# Altium footprint library Rising Clamp System WR-TBL_7.62 mm.PcbLib: 34 footprints (part 1 of 3)
Each footprint in its own frame and in the unit in brackets; x right, y up, seen from the top. Pads: shape width x height; smd on the part's side, far side on the other; paste and mask are expansions set on the pad; w line width, h text height; cw(c..) or ccw(c..) is an arc to the next point about the centre after c.
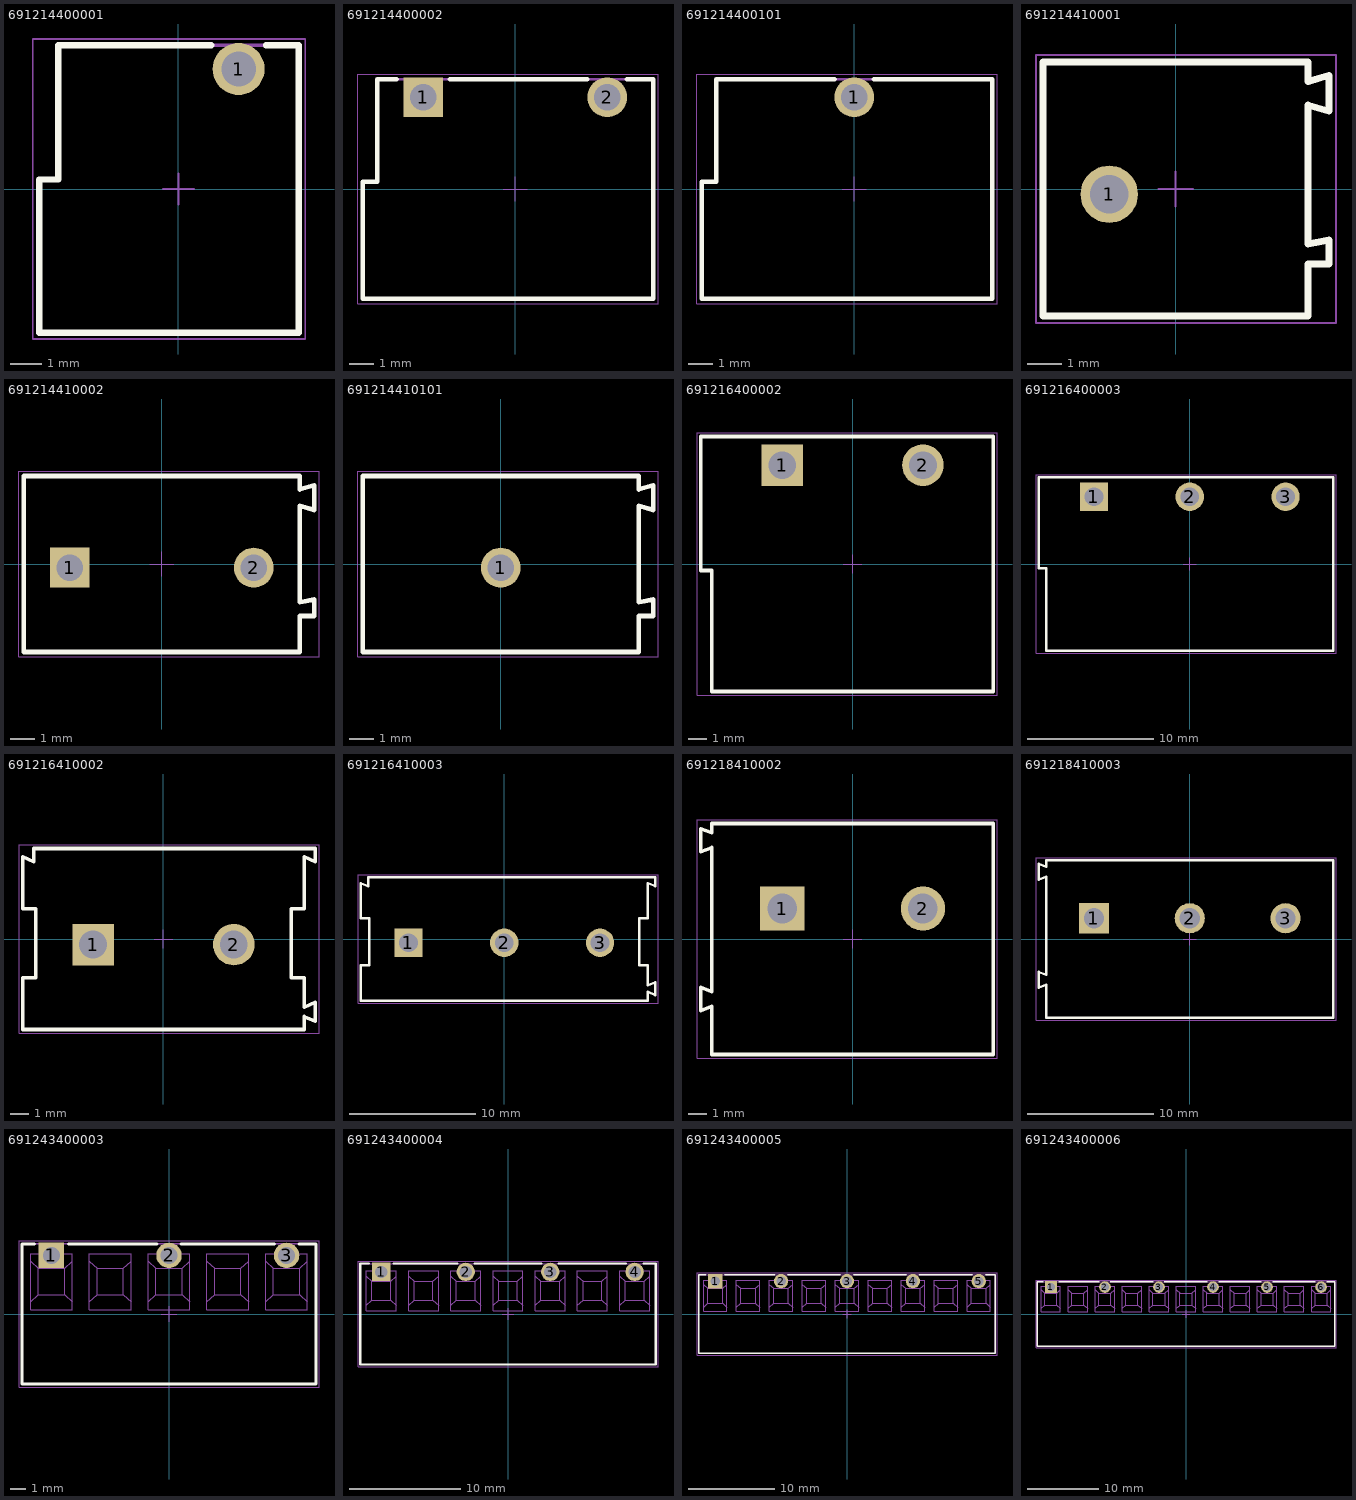
[diagram p0: the footprints below, top view; thin cyan lines are the x and y axes]

## 691214400001 [mm] "7.62 mm Vertical Cable Entry with Rising Cage Clamp, 1 pin"
height 7.3
pads (1):
  round 1.65 hole 1.1: 1(1.905,3.8)
Top Overlay:
  lines w0.2: 1.04,4.55 -3.81,4.55 -3.81,0.3 -4.41,0.3 -4.41,-4.55 3.81,-4.55 3.81,4.55 2.77,4.55
M13 Assembly Top:
  lines w0.1: -4.41,-4.55 -4.41,0.3 -3.81,0.3 -3.81,4.55 3.81,4.55 3.81,-4.55 -4.41,-4.55
M15 Courtyard Top:
  lines w0.05: -0.5,0 0.5,0 ; 0,-0.5 0,0.5 ; -4.61,-4.75 -4.61,4.75 4.01,4.75 4.01,-4.75 -4.61,-4.75
3D body "691214400001.stp": height 7.4, standoff -3.4, extent -4.41,-4.55 3.81,4.55

## 691214400002 [mm] "7.62 mm Vertical Cable Entry with Rising Cage Clamp, 2 pins"
height 7.3
pads (2):
  rect 1.65x1.65 hole 1.1: 1(-3.81,3.8)
  round 1.65 hole 1.1: 2(3.81,3.8)
Top Overlay:
  lines w0.2: -4.915,4.55 -5.715,4.55 -5.715,0.3 -6.315,0.3 -6.315,-4.55 5.715,-4.55 5.715,4.55 4.635,4.55 ; -2.705,4.55 2.985,4.55
M13 Assembly Top:
  lines w0.1: -6.315,-4.55 -6.315,0.3 -5.715,0.3 -5.715,4.55 5.715,4.55 5.715,-4.55 -6.315,-4.55
M15 Courtyard Top:
  lines w0.05: -0.5,0 0.5,0 ; 0,-0.5 0,0.5 ; -6.515,-4.75 -6.515,4.75 5.915,4.75 5.915,-4.75 -6.515,-4.75
3D body "691214400002.stp": height 7.4, standoff -3.4, extent -6.315,-4.55 5.715,4.55

## 691214400101 [mm] "7.62 mm Vertical Cable Entry with Rising Cage Clamp, 1 pin"
height 7.3
pads (1):
  round 1.65 hole 1.1: 1(0,3.8)
Top Overlay:
  lines w0.2: -0.815,4.55 -5.715,4.55 -5.715,0.3 -6.315,0.3 -6.315,-4.55 5.715,-4.55 5.715,4.55 0.815,4.55
M13 Assembly Top:
  lines w0.1: -6.315,-4.55 5.715,-4.55 5.715,4.55 -5.715,4.55 -5.715,0.3 -6.315,0.3 -6.315,-4.55
M15 Courtyard Top:
  lines w0.05: -0.5,0 0.5,0 ; 0,-0.5 0,0.5 ; -6.515,-4.75 5.915,-4.75 5.915,4.75 -6.515,4.75 -6.515,-4.75
3D body "691214400101.stp": height 7.4, standoff -3.4, extent -6.315,-4.55 5.715,4.55

## 691214410001 [mm] "7.62 mm Horizontal Entry w. Rising Cage Clamp, 01p"
height 9.1
pads (1):
  round 1.65 hole 1.1: 1(-1.905,-0.15)
Top Overlay:
  lines w0.2: -3.81,-3.65 -3.81,3.65 3.81,3.65 3.81,3.09 4.41,3.265 4.41,2.235 3.81,2.41 3.81,-1.58 4.41,-1.47 4.41,-2.15 3.81,-2.15 3.81,-3.65 -3.81,-3.65
M13 Assembly Top:
  lines w0.1: -3.81,-3.65 3.81,-3.65 3.81,-2.15 4.41,-2.15 4.41,-1.47 3.81,-1.58 3.81,2.41 4.41,2.235 4.41,3.265 3.81,3.09 3.81,3.65 -3.81,3.65 -3.81,-3.65
M15 Courtyard Top:
  lines w0.05: -0.5,0 0.5,0 ; 0,-0.5 0,0.5 ; -4.01,-3.85 -4.01,3.85 4.61,3.85 4.61,-3.85 -4.01,-3.85
3D body "691214410001.stp": height 9.2, standoff -3.4, extent -3.81,-3.65 4.41,3.65

## 691214410002 [mm] "7.62 mm Horizontal Entry w. Rising Cage Clamp, 02p"
height 9.1
pads (2):
  rect 1.65x1.65 hole 1.1: 1(-3.81,-0.15)
  round 1.65 hole 1.1: 2(3.81,-0.15)
Top Overlay:
  lines w0.2: -5.715,-3.65 5.715,-3.65 5.715,-2.15 6.315,-2.15 6.315,-1.47 5.715,-1.58 5.715,2.41 6.315,2.235 6.315,3.265 5.715,3.09 5.715,3.65 -5.715,3.65 -5.715,-3.65
M13 Assembly Top:
  lines w0.1: -5.715,-3.65 -5.715,3.65 5.715,3.65 5.715,3.09 6.315,3.265 6.315,2.235 5.715,2.41 5.715,-1.58 6.315,-1.47 6.315,-2.15 5.715,-2.15 5.715,-3.65 -5.715,-3.65
M15 Courtyard Top:
  lines w0.05: -0.5,0 0.5,0 ; 0,-0.5 0,0.5 ; -5.915,-3.85 6.515,-3.85 6.515,3.85 -5.915,3.85 -5.915,-3.85
3D body "691214410002.stp": height 9.2, standoff -3.4, extent -5.715,-3.65 6.315,3.65

## 691214410101 [mm] "7.62 mm Horizontal Entry w. Rising Cage Clamp, 01p"
height 9.1
pads (1):
  round 1.65 hole 1.1: 1(0,-0.15)
Top Overlay:
  lines w0.2: -5.715,-3.65 5.715,-3.65 5.715,-2.15 6.315,-2.15 6.315,-1.47 5.715,-1.58 5.715,2.41 6.315,2.235 6.315,3.265 5.715,3.09 5.715,3.65 -5.715,3.65 -5.715,-3.65
M13 Assembly Top:
  lines w0.1: -5.715,-3.65 -5.715,3.65 5.715,3.65 5.715,3.09 6.315,3.265 6.315,2.235 5.715,2.41 5.715,-1.58 6.315,-1.47 6.315,-2.15 5.715,-2.15 5.715,-3.65 -5.715,-3.65
M15 Courtyard Top:
  lines w0.05: -0.5,0 0.5,0 ; 0,-0.5 0,0.5 ; -5.915,-3.85 6.515,-3.85 6.515,3.85 -5.915,3.85 -5.915,-3.85
3D body "691214410101.stp": height 9.2, standoff -3.4, extent -5.715,-3.65 6.315,3.65

## 691216400002 [mm] "Vertical Cable Entry with Rising Cage Clamp, pitch 7.62mm, 02p"
height 9.8
pads (2):
  rect 2.25x2.25 hole 1.5: 1(-3.81,5.35)
  round 2.25 hole 1.5: 2(3.81,5.35)
Top Overlay:
  lines w0.2: -8.22,-0.35 -8.22,6.9 7.62,6.9 7.62,-6.9 -7.62,-6.9 -7.62,-0.35 -8.22,-0.35
M13 Assembly Top:
  lines w0.1: -8.22,-0.35 -7.62,-0.35 -7.62,-6.9 7.62,-6.9 7.62,6.9 -8.22,6.9 -8.22,-0.35
M15 Courtyard Top:
  lines w0.05: -0.5,0 0.5,0 ; 0,-0.5 0,0.5 ; -8.42,-7.1 7.82,-7.1 7.82,7.1 -8.42,7.1 -8.42,-7.1
3D body "691216400002.stp": height 9.9, standoff -3.4, extent -8.22,-6.9 7.62,6.9

## 691216400003 [mm] "Vertical Cable Entry with Rising Cage Clamp, pitch 7.62mm, 03p"
height 9.8
pads (3):
  rect 2.25x2.25 hole 1.5: 1(-7.62,5.35)
  round 2.25 hole 1.5: 2(0,5.35) 3(7.62,5.35)
Top Overlay:
  lines w0.2: -12.03,-0.35 -11.43,-0.35 -11.43,-6.9 11.43,-6.9 11.43,6.9 -12.03,6.9 -12.03,-0.35
M13 Assembly Top:
  lines w0.1: -12.03,-0.35 -12.03,6.9 11.43,6.9 11.43,-6.9 -11.43,-6.9 -11.43,-0.35 -12.03,-0.35
M15 Courtyard Top:
  lines w0.05: -0.5,0 0.5,0 ; 0,-0.5 0,0.5 ; -12.23,-7.1 -12.23,7.1 11.63,7.1 11.63,-7.1 -12.23,-7.1
3D body "691216400003.stp": height 9.9, standoff -3.4, extent -12.03,-6.9 11.43,6.9

## 691216410002 [mm] "Horizontal Cable Entry with Rising Cage Clamp, pitch 7.62mm, 02p"
height 13.8
pads (2):
  rect 2.25x2.25 hole 1.5: 1(-3.81,-0.3)
  round 2.25 hole 1.5: 2(3.81,-0.3)
Top Overlay:
  lines w0.2: -7.62,4.45 -7.62,1.64 -6.92,1.64 -6.92,-2.09 -7.62,-2.09 -7.62,-4.9 7.62,-4.9 7.62,-4.2 ; -7.619,4.452 -7.02,4.19 -7.02,4.9 8.22,4.9 8.22,4.19 7.62,4.451 ; 7.62,-3.691 7.62,-2.09 6.92,-2.09 6.92,1.64 7.62,1.64 7.62,4.45 ; 7.621,-4.198 8.22,-4.46 8.22,-3.43 7.621,-3.692
M13 Assembly Top:
  lines w0.1: -7.62,4.45 -7.62,1.64 -6.92,1.64 -6.92,-2.09 -7.62,-2.09 -7.62,-4.9 7.62,-4.9 7.62,-4.2 ; -7.619,4.452 -7.02,4.19 -7.02,4.9 8.22,4.9 8.22,4.19 7.62,4.451 ; 7.62,-3.691 7.62,-2.09 6.92,-2.09 6.92,1.64 7.62,1.64 7.62,4.45 ; 7.621,-4.198 8.22,-4.46 8.22,-3.43 7.621,-3.692
M15 Courtyard Top:
  lines w0.05: -0.5,0 0.5,0 ; 0,-0.5 0,0.5 ; -7.82,-5.1 8.42,-5.1 8.42,5.1 -7.82,5.1 -7.82,-5.1
3D body "691216410002.stp": height 13.9, standoff -3.4, extent -7.62,-4.9 8.22,4.9

## 691216410003 [mm] "Horizontal Cable Entry with Rising Cage Clamp, pitch 7.62mm, 03p"
height 13.8
pads (3):
  rect 2.25x2.25 hole 1.5: 1(-7.62,-0.3)
  round 2.25 hole 1.5: 2(0,-0.3) 3(7.62,-0.3)
Top Overlay:
  lines w0.2: -11.43,4.45 -11.43,1.64 -10.73,1.64 -10.73,-2.09 -11.43,-2.09 -11.43,-4.9 11.43,-4.9 11.43,-4.2 ; -11.429,4.452 -10.83,4.19 -10.83,4.9 12.03,4.9 12.03,4.19 11.43,4.451 ; 11.43,-3.691 11.43,-2.09 10.73,-2.09 10.73,1.64 11.43,1.64 11.43,4.45 ; 11.431,-4.198 12.03,-4.46 12.03,-3.43 11.431,-3.692
M13 Assembly Top:
  lines w0.1: -11.43,4.45 -11.43,1.64 -10.73,1.64 -10.73,-2.09 -11.43,-2.09 -11.43,-4.9 11.43,-4.9 11.43,-4.2 ; -11.429,4.452 -10.83,4.19 -10.83,4.9 12.03,4.9 12.03,4.19 11.43,4.451 ; 11.43,-3.691 11.43,-2.09 10.73,-2.09 10.73,1.64 11.43,1.64 11.43,4.45 ; 11.431,-4.198 12.03,-4.46 12.03,-3.43 11.431,-3.692
M15 Courtyard Top:
  lines w0.05: -0.5,0 0.5,0 ; 0,-0.5 0,0.5 ; -11.63,-5.1 -11.63,5.1 12.23,5.1 12.23,-5.1 -11.63,-5.1
3D body "691216410003.stp": height 13.9, standoff -3.4, extent -11.43,-4.9 12.03,4.9

## 691218410002 [mm] "Horizontal Entry Modular with Rising Cage Clamp, pitch 7.62mm, 2pin"
height 21.5
pads (2):
  rect 2.4x2.4 hole 1.6: 1(-3.81,1.65)
  round 2.4 hole 1.6: 2(3.81,1.65)
Top Overlay:
  lines w0.2: -8.22,-3.875 -7.62,-3.65 -7.62,-6.25 7.62,-6.25 7.62,6.25 -7.62,6.25 -7.62,5.75 -8.22,5.975 -8.22,4.725 -7.62,4.95 -7.62,-2.85 -8.22,-2.625 -8.22,-3.875
M13 Assembly Top:
  lines w0.1: -8.22,-3.875 -8.22,-2.625 -7.62,-2.85 -7.62,4.95 -8.22,4.725 -8.22,5.975 -7.62,5.75 -7.62,6.25 7.62,6.25 7.62,-6.25 -7.62,-6.25 -7.62,-3.65 -8.22,-3.875
M15 Courtyard Top:
  lines w0.05: -0.5,0 0.5,0 ; 0,-0.5 0,0.5 ; -8.42,-6.45 7.82,-6.45 7.82,6.45 -8.42,6.45 -8.42,-6.45
3D body "691218410002.stp": height 21.53, standoff -4.17, extent -8.21,-6.25 7.63,6.25

## 691218410003 [mm] "Horizontal Entry Modular with Rising Cage Clamp, pitch 7.62mm, 3pin"
height 21.5
pads (3):
  rect 2.4x2.4 hole 1.6: 1(-7.62,1.65)
  round 2.4 hole 1.6: 2(0,1.65) 3(7.62,1.65)
Top Overlay:
  lines w0.2: -12.03,-3.875 -12.03,-2.625 -11.43,-2.85 -11.43,4.95 -12.03,4.725 -12.03,5.975 -11.43,5.75 -11.43,6.25 11.43,6.25 11.43,-6.25 -11.43,-6.25 -11.43,-3.65 -12.03,-3.875
M13 Assembly Top:
  lines w0.1: -12.03,-3.875 -11.43,-3.65 -11.43,-6.25 11.43,-6.25 11.43,6.25 -11.43,6.25 -11.43,5.75 -12.03,5.975 -12.03,4.725 -11.43,4.95 -11.43,-2.85 -12.03,-2.625 -12.03,-3.875
M15 Courtyard Top:
  lines w0.05: -0.5,0 0.5,0 ; 0,-0.5 0,0.5 ; -12.23,-6.45 -12.23,6.45 11.63,6.45 11.63,-6.45 -12.23,-6.45
3D body "691218410003.stp": height 21.53, standoff -4.17, extent -12.03,-6.25 11.43,6.25

## 691243400003 [mm] "Serie 2434 - 7.62 mm _ 3 pins"
height 7.3
pads (3):
  rect 1.65x1.65 hole 1.1: 1(-7.62,3.8)
  round 1.65 hole 1.1: 2(0,3.8) 3(7.62,3.8)
Top Overlay:
  lines w0.2: -8.725,4.55 -9.525,4.55 -9.525,-4.55 9.525,-4.55 9.525,4.55 8.415,4.55 ; -6.515,4.55 -0.775,4.55 ; 0.775,4.55 6.825,4.55
M13 Assembly Top:
  lines w0.05: -8.97,0.79 -8.465,1.245 ; -8.97,3.41 -8.465,2.955 ; -6.775,1.245 -6.27,0.79 ; -6.775,2.955 -6.27,3.41 ; -5.16,0.79 -4.655,1.245 ; -5.16,3.41 -4.655,2.955 ; -2.965,1.245 -2.46,0.79 ; -2.965,2.955 -2.46,3.41 ; -1.35,0.79 -0.845,1.245 ; -1.35,3.41 -0.845,2.955 ; 0.845,1.245 1.35,0.79 ; 0.845,2.955 1.35,3.41 ; 2.46,0.79 2.965,1.245 ; 2.46,3.41 2.965,2.955 ; 4.655,1.245 5.16,0.79 ; 4.655,2.955 5.16,3.41 ; 6.27,0.79 6.775,1.245 ; 6.27,3.41 6.775,2.955 ; 8.465,1.245 8.97,0.79 ; 8.465,2.955 8.97,3.41 ; -8.97,0.29 -8.97,3.91 -6.27,3.91 -6.27,0.29 -8.97,0.29 ; -8.47,1.25 -8.47,2.95 -6.77,2.95 -6.77,1.25 -8.47,1.25 ; -5.16,0.29 -2.46,0.29 -2.46,3.91 -5.16,3.91 -5.16,0.29 ; -4.66,1.25 -2.96,1.25 -2.96,2.95 -4.66,2.95 -4.66,1.25 ; -1.35,0.29 1.35,0.29 1.35,3.91 -1.35,3.91 -1.35,0.29 ; -0.85,1.25 0.85,1.25 0.85,2.95 -0.85,2.95 -0.85,1.25 ; 2.46,0.29 5.16,0.29 5.16,3.91 2.46,3.91 2.46,0.29 ; 2.96,1.25 4.66,1.25 4.66,2.95 2.96,2.95 2.96,1.25 ; 6.27,0.29 8.97,0.29 8.97,3.91 6.27,3.91 6.27,0.29 ; 6.77,1.25 8.47,1.25 8.47,2.95 6.77,2.95 6.77,1.25
  lines w0.1: -9.525,-4.55 9.525,-4.55 9.525,4.55 -9.525,4.55 -9.525,-4.55
M15 Courtyard Top:
  lines w0.05: -0.5,0 0.5,0 ; 0,-0.5 0,0.5 ; -9.725,-4.75 -9.725,4.75 9.725,4.75 9.725,-4.75 -9.725,-4.75
3D body "691243400003.stp": height 7.35, standoff -3.45, extent -9.525,-4.55 9.525,4.55

## 691243400004 [mm] "Serie 2434 - 7.62 mm _ 4 pins"
height 7.3
pads (4):
  rect 1.65x1.65 hole 1.1: 1(-11.43,3.8)
  round 1.65 hole 1.1: 2(-3.81,3.8) 3(3.81,3.8) 4(11.43,3.8)
Top Overlay:
  lines w0.2: -12.535,4.55 -13.335,4.55 -13.335,-4.55 13.335,-4.55 13.335,4.55 12.225,4.55 ; -10.325,4.55 -4.585,4.55 ; -3.035,4.55 3.015,4.55 ; 4.585,4.55 10.635,4.55
M13 Assembly Top:
  lines w0.05: -12.78,0.79 -12.275,1.245 ; -12.78,3.41 -12.275,2.955 ; -10.585,1.245 -10.08,0.79 ; -10.585,2.955 -10.08,3.41 ; -8.97,0.79 -8.465,1.245 ; -8.97,3.41 -8.465,2.955 ; -6.775,1.245 -6.27,0.79 ; -6.775,2.955 -6.27,3.41 ; -5.16,0.79 -4.655,1.245 ; -5.16,3.41 -4.655,2.955 ; -2.965,1.245 -2.46,0.79 ; -2.965,2.955 -2.46,3.41 ; -1.35,0.79 -0.845,1.245 ; -1.35,3.41 -0.845,2.955 ; 0.845,1.245 1.35,0.79 ; 0.845,2.955 1.35,3.41 ; 2.46,0.79 2.965,1.245 ; 2.46,3.41 2.965,2.955 ; 4.655,1.245 5.16,0.79 ; 4.655,2.955 5.16,3.41 ; 6.27,0.79 6.775,1.245 ; 6.27,3.41 6.775,2.955 ; 8.465,1.245 8.97,0.79 ; 8.465,2.955 8.97,3.41 ; 10.08,0.79 10.585,1.245 ; 10.08,3.41 10.585,2.955 ; 12.275,1.245 12.78,0.79 ; 12.275,2.955 12.78,3.41 ; -12.78,0.29 -12.78,3.91 -10.08,3.91 -10.08,0.29 -12.78,0.29 ; -12.28,1.25 -12.28,2.95 -10.58,2.95 -10.58,1.25 -12.28,1.25 ; -8.97,0.29 -6.27,0.29 -6.27,3.91 -8.97,3.91 -8.97,0.29 ; -8.47,1.25 -6.77,1.25 -6.77,2.95 -8.47,2.95 -8.47,1.25 ; -5.16,0.29 -2.46,0.29 -2.46,3.91 -5.16,3.91 -5.16,0.29 ; -4.66,1.25 -2.96,1.25 -2.96,2.95 -4.66,2.95 -4.66,1.25 ; -1.35,0.29 1.35,0.29 1.35,3.91 -1.35,3.91 -1.35,0.29 ; -0.85,1.25 0.85,1.25 0.85,2.95 -0.85,2.95 -0.85,1.25 ; 2.46,0.29 5.16,0.29 5.16,3.91 2.46,3.91 2.46,0.29 ; 2.96,1.25 4.66,1.25 4.66,2.95 2.96,2.95 2.96,1.25 ; 6.27,0.29 6.27,3.91 8.97,3.91 8.97,0.29 6.27,0.29 ; 6.77,1.25 6.77,2.95 8.47,2.95 8.47,1.25 6.77,1.25 ; 10.08,0.29 10.08,3.91 12.78,3.91 12.78,0.29 10.08,0.29 ; 10.58,1.25 10.58,2.95 12.28,2.95 12.28,1.25 10.58,1.25
  lines w0.1: -13.335,-4.55 13.335,-4.55 13.335,4.55 -13.335,4.55 -13.335,-4.55
M15 Courtyard Top:
  lines w0.05: -0.5,0 0.5,0 ; 0,-0.5 0,0.5 ; -13.535,-4.75 -13.535,4.75 13.535,4.75 13.535,-4.75 -13.535,-4.75
3D body "691243400004.stp": height 7.35, standoff -3.45, extent -13.335,-4.55 13.335,4.55

## 691243400005 [mm] "Serie 2434 - 7.62 mm _ 5 pins"
height 7.3
pads (5):
  rect 1.65x1.65 hole 1.1: 1(-15.24,3.8)
  round 1.65 hole 1.1: 2(-7.62,3.8) 3(0,3.8) 4(7.62,3.8) 5(15.24,3.8)
Top Overlay:
  lines w0.2: -16.345,4.55 -17.145,4.55 -17.145,-4.55 17.145,-4.55 17.145,4.55 16.035,4.55 ; -14.135,4.55 -8.395,4.55 ; -6.845,4.55 -0.795,4.55 ; 0.775,4.55 6.825,4.55 ; 8.395,4.55 14.445,4.55
M13 Assembly Top:
  lines w0.05: -16.59,0.79 -16.085,1.245 ; -16.59,3.41 -16.085,2.955 ; -14.395,1.245 -13.89,0.79 ; -14.395,2.955 -13.89,3.41 ; -12.78,0.79 -12.275,1.245 ; -12.78,3.41 -12.275,2.955 ; -10.585,1.245 -10.08,0.79 ; -10.585,2.955 -10.08,3.41 ; -8.97,0.79 -8.465,1.245 ; -8.97,3.41 -8.465,2.955 ; -6.775,1.245 -6.27,0.79 ; -6.775,2.955 -6.27,3.41 ; -5.16,0.79 -4.655,1.245 ; -5.16,3.41 -4.655,2.955 ; -2.965,1.245 -2.46,0.79 ; -2.965,2.955 -2.46,3.41 ; -1.35,0.79 -0.845,1.245 ; -1.35,3.41 -0.845,2.955 ; 0.845,1.245 1.35,0.79 ; 0.845,2.955 1.35,3.41 ; 2.46,0.79 2.965,1.245 ; 2.46,3.41 2.965,2.955 ; 4.655,1.245 5.16,0.79 ; 4.655,2.955 5.16,3.41 ; 6.27,0.79 6.775,1.245 ; 6.27,3.41 6.775,2.955 ; 8.465,1.245 8.97,0.79 ; 8.465,2.955 8.97,3.41 ; 10.08,0.79 10.585,1.245 ; 10.08,3.41 10.585,2.955 ; 12.275,1.245 12.78,0.79 ; 12.275,2.955 12.78,3.41 ; 13.89,0.79 14.395,1.245 ; 13.89,3.41 14.395,2.955 ; 16.085,1.245 16.59,0.79 ; 16.085,2.955 16.59,3.41 ; -16.59,0.29 -16.59,3.91 -13.89,3.91 -13.89,0.29 -16.59,0.29 ; -16.09,1.25 -16.09,2.95 -14.39,2.95 -14.39,1.25 -16.09,1.25 ; -12.78,0.29 -10.08,0.29 -10.08,3.91 -12.78,3.91 -12.78,0.29 ; -12.28,1.25 -10.58,1.25 -10.58,2.95 -12.28,2.95 -12.28,1.25 ; -8.97,0.29 -6.27,0.29 -6.27,3.91 -8.97,3.91 -8.97,0.29 ; -8.47,1.25 -6.77,1.25 -6.77,2.95 -8.47,2.95 -8.47,1.25 ; -5.16,0.29 -2.46,0.29 -2.46,3.91 -5.16,3.91 -5.16,0.29 ; -4.66,1.25 -2.96,1.25 -2.96,2.95 -4.66,2.95 -4.66,1.25 ; -1.35,0.29 1.35,0.29 1.35,3.91 -1.35,3.91 -1.35,0.29 ; -0.85,1.25 0.85,1.25 0.85,2.95 -0.85,2.95 -0.85,1.25 ; 2.46,0.29 2.46,3.91 5.16,3.91 5.16,0.29 2.46,0.29 ; 2.96,1.25 2.96,2.95 4.66,2.95 4.66,1.25 2.96,1.25 ; 6.27,0.29 6.27,3.91 8.97,3.91 8.97,0.29 6.27,0.29 ; 6.77,1.25 6.77,2.95 8.47,2.95 8.47,1.25 6.77,1.25 ; 10.08,0.29 12.78,0.29 12.78,3.91 10.08,3.91 10.08,0.29 ; 10.58,1.25 12.28,1.25 12.28,2.95 10.58,2.95 10.58,1.25 ; 13.89,0.29 16.59,0.29 16.59,3.91 13.89,3.91 13.89,0.29 ; 14.39,1.25 16.09,1.25 16.09,2.95 14.39,2.95 14.39,1.25
  lines w0.1: -17.145,-4.55 17.145,-4.55 17.145,4.55 -17.145,4.55 -17.145,-4.55
M15 Courtyard Top:
  lines w0.05: -0.5,0 0.5,0 ; 0,-0.5 0,0.5 ; -17.345,-4.75 -17.345,4.75 17.345,4.75 17.345,-4.75 -17.345,-4.75
3D body "691243400005.stp": height 7.35, standoff -3.45, extent -17.145,-4.55 17.145,4.55

## 691243400006 [mm] "Serie 2434 - 7.62 mm _ 6 pins"
height 7.3
pads (6):
  rect 1.65x1.65 hole 1.1: 1(-19.05,3.8)
  round 1.65 hole 1.1: 2(-11.43,3.8) 3(-3.81,3.8) 4(3.81,3.8) 5(11.43,3.8) 6(19.05,3.8)
Top Overlay:
  lines w0.2: -20.155,4.55 -20.955,4.55 -20.955,-4.55 20.955,-4.55 20.955,4.55 19.845,4.55 ; -17.945,4.55 -12.205,4.55 ; -10.655,4.55 -4.605,4.55 ; -3.035,4.55 3.015,4.55 ; 4.585,4.55 10.635,4.55 ; 12.205,4.55 18.255,4.55
M13 Assembly Top:
  lines w0.05: -20.4,0.79 -19.895,1.245 ; -20.4,3.41 -19.895,2.955 ; -18.205,1.245 -17.7,0.79 ; -18.205,2.955 -17.7,3.41 ; -16.59,0.79 -16.085,1.245 ; -16.59,3.41 -16.085,2.955 ; -14.395,1.245 -13.89,0.79 ; -14.395,2.955 -13.89,3.41 ; -12.78,0.79 -12.275,1.245 ; -12.78,3.41 -12.275,2.955 ; -10.585,1.245 -10.08,0.79 ; -10.585,2.955 -10.08,3.41 ; -8.97,0.79 -8.465,1.245 ; -8.97,3.41 -8.465,2.955 ; -6.775,1.245 -6.27,0.79 ; -6.775,2.955 -6.27,3.41 ; -5.16,0.79 -4.655,1.245 ; -5.16,3.41 -4.655,2.955 ; -2.965,1.245 -2.46,0.79 ; -2.965,2.955 -2.46,3.41 ; -1.35,0.79 -0.845,1.245 ; -1.35,3.41 -0.845,2.955 ; 0.845,1.245 1.35,0.79 ; 0.845,2.955 1.35,3.41 ; 2.46,0.79 2.965,1.245 ; 2.46,3.41 2.965,2.955 ; 4.655,1.245 5.16,0.79 ; 4.655,2.955 5.16,3.41 ; 6.27,0.79 6.775,1.245 ; 6.27,3.41 6.775,2.955 ; 8.465,1.245 8.97,0.79 ; 8.465,2.955 8.97,3.41 ; 10.08,0.79 10.585,1.245 ; 10.08,3.41 10.585,2.955 ; 12.275,1.245 12.78,0.79 ; 12.275,2.955 12.78,3.41 ; 13.89,0.79 14.395,1.245 ; 13.89,3.41 14.395,2.955 ; 16.085,1.245 16.59,0.79 ; 16.085,2.955 16.59,3.41 ; 17.7,0.79 18.205,1.245 ; 17.7,3.41 18.205,2.955 ; 19.895,1.245 20.4,0.79 ; 19.895,2.955 20.4,3.41 ; -20.4,0.29 -20.4,3.91 -17.7,3.91 -17.7,0.29 -20.4,0.29 ; -19.9,1.25 -19.9,2.95 -18.2,2.95 -18.2,1.25 -19.9,1.25 ; -16.59,0.29 -13.89,0.29 -13.89,3.91 -16.59,3.91 -16.59,0.29 ; -16.09,1.25 -14.39,1.25 -14.39,2.95 -16.09,2.95 -16.09,1.25 ; -12.78,0.29 -10.08,0.29 -10.08,3.91 -12.78,3.91 -12.78,0.29 ; -12.28,1.25 -10.58,1.25 -10.58,2.95 -12.28,2.95 -12.28,1.25 ; -8.97,0.29 -6.27,0.29 -6.27,3.91 -8.97,3.91 -8.97,0.29 ; -8.47,1.25 -6.77,1.25 -6.77,2.95 -8.47,2.95 -8.47,1.25 ; -5.16,0.29 -2.46,0.29 -2.46,3.91 -5.16,3.91 -5.16,0.29 ; -4.66,1.25 -2.96,1.25 -2.96,2.95 -4.66,2.95 -4.66,1.25 ; -1.35,0.29 -1.35,3.91 1.35,3.91 1.35,0.29 -1.35,0.29 ; -0.85,1.25 -0.85,2.95 0.85,2.95 0.85,1.25 -0.85,1.25 ; 2.46,0.29 2.46,3.91 5.16,3.91 5.16,0.29 2.46,0.29 ; 2.96,1.25 2.96,2.95 4.66,2.95 4.66,1.25 2.96,1.25 ; 6.27,0.29 8.97,0.29 8.97,3.91 6.27,3.91 6.27,0.29 ; 6.77,1.25 8.47,1.25 8.47,2.95 6.77,2.95 6.77,1.25 ; 10.08,0.29 12.78,0.29 12.78,3.91 10.08,3.91 10.08,0.29 ; 10.58,1.25 12.28,1.25 12.28,2.95 10.58,2.95 10.58,1.25 ; 13.89,0.29 13.89,3.91 16.59,3.91 16.59,0.29 13.89,0.29 ; 14.39,1.25 14.39,2.95 16.09,2.95 16.09,1.25 14.39,1.25 ; 17.7,0.29 17.7,3.91 20.4,3.91 20.4,0.29 17.7,0.29 ; 18.2,1.25 18.2,2.95 19.9,2.95 19.9,1.25 18.2,1.25
  lines w0.1: -20.955,-4.55 20.955,-4.55 20.955,4.55 -20.955,4.55 -20.955,-4.55
M15 Courtyard Top:
  lines w0.05: -0.5,0 0.5,0 ; 0,-0.5 0,0.5 ; -21.155,-4.75 -21.155,4.75 21.155,4.75 21.155,-4.75 -21.155,-4.75
3D body "691243400006.stp": height 7.35, standoff -3.45, extent -20.955,-4.55 20.955,4.55